# EAGLE library part SLG46108V (library GREENPAK)
GreenPAK SLG46108V
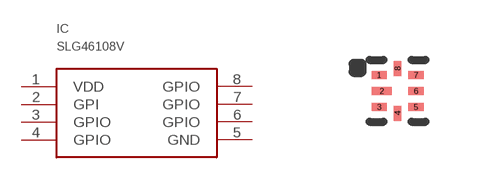
[diagram p11: symbol with the pads of STQFN-8L-1.0X1.2_N; footprint STQFN-8L-1.0X1.2_N]

Designator prefix IC

## SLG46108V  [STQFN-8L-1.0X1.2_N]
1  VDD  pwr
2  GPI  in
3  GPIO
4  GPIO
5  GND  pwr
6  GPIO
7  GPIO
8  GPIO

## Footprint STQFN-8L-1.0X1.2_N (pad centres in mm)
smd 0.38 x 0.19: 1 -0.46,0.4; 3 -0.46,-0.4; 5 0.46,-0.4; 6 0.46,0; 7 0.46,0.4
smd 0.505 x 0.19: 2 -0.395,0
smd 0.19 x 0.38: 4 0,-0.56; 8 0,0.56